# EAGLE library part HOLOGRAM_PRIME (library Hologram_Prime)
Hologram Prime Module Draft Footprint Revision 1/2018 Note: Layout subject to change, please review release files before integrating. For Purchasing details please contact sales@hologram.io
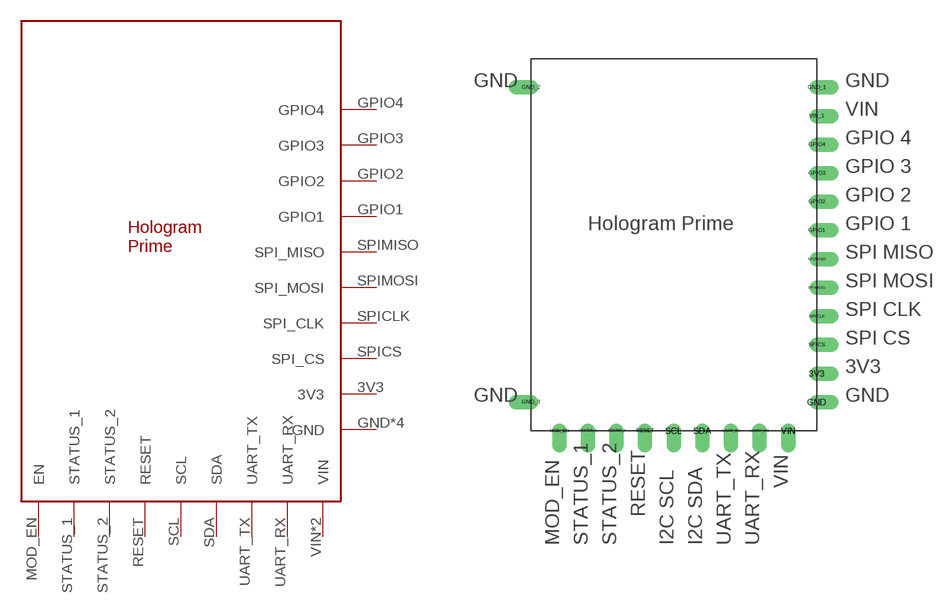
[diagram p0: symbol with the pads of HOLOGRAM_PRIME; footprint HOLOGRAM_PRIME]

Designator prefix -

## HOLOGRAM_PRIME  [HOLOGRAM_PRIME]
3V3  3V3
GND  GND
GND_1  GND
GND_2  GND
GND_3  GND
GPIO1  GPIO1
GPIO2  GPIO2
GPIO3  GPIO3
GPIO4  GPIO4
MOD_EN  EN
RESET  RESET
SCL  SCL
SDA  SDA
SPICLK  SPI_CLK
SPICS  SPI_CS
SPIMISO  SPI_MISO
SPIMOSI  SPI_MOSI
STATUS_1  STATUS_1
STATUS_2  STATUS_2
UART_RX  UART_RX
UART_TX  UART_TX
VIN  VIN
VIN_1  VIN

## Footprint HOLOGRAM_PRIME (pad centres in mm)
drill 0.8 offset: 3V3 22.86,5.08; GND 22.86,2.54; GND_1 22.86,30.48; GND_2 -2.54,30.48; GND_3 -2.54,2.54; GPIO1 22.86,17.78; GPIO2 22.86,20.32; GPIO3 22.86,22.86; GPIO4 22.86,25.4; MOD_EN 0,0; RESET 7.62,0; SCL 10.16,0; SDA 12.7,0; SPICLK 22.86,10.16; SPICS 22.86,7.62; SPIMISO 22.86,15.24; SPIMOSI 22.86,12.7; STATUS_1 2.54,0; STATUS_2 5.08,0; UART_RX 17.78,0; UART_TX 15.24,0; VIN 20.32,0; VIN_1 22.86,27.94